# Altium footprint library Diode_Lumex_SSL-LX5093GD_eec_0.PcbLib: 1 footprints
Each footprint in its own frame and in the unit in brackets; x right, y up, seen from the top. Pads: shape width x height; smd on the part's side, far side on the other; paste and mask are expansions set on the pad; w line width, h text height; cw(c..) or ccw(c..) is an arc to the next point about the centre after c.
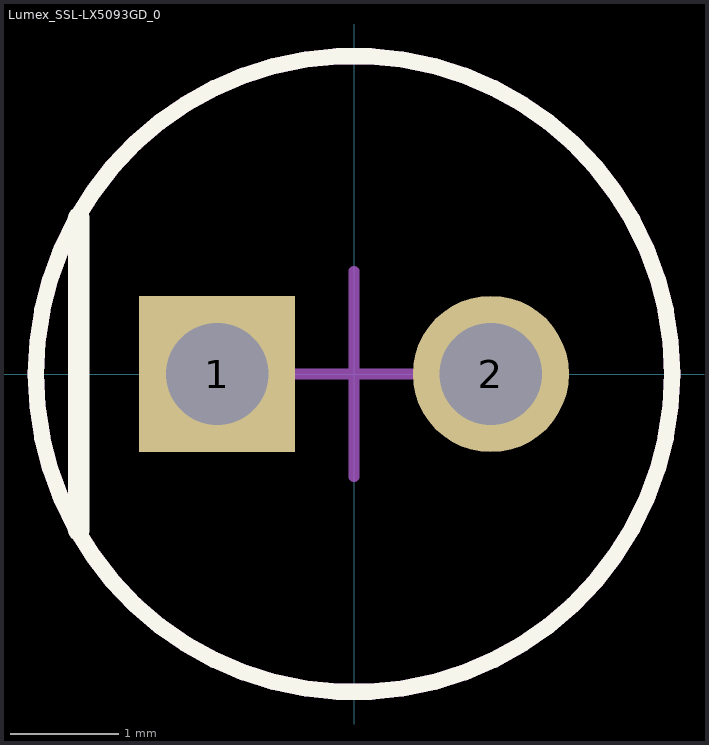
[diagram p0: the footprint, top view; thin cyan lines are the x and y axes]

## Lumex_SSL-LX5093GD_0 [mm]
pads (2):
  rect 1.45x1.45 hole 0.95 paste-1000 mask+0: 1(-1.27,0)
  round 1.45 hole 0.95 paste-1000 mask+0: 2(1.27,0)
Top Overlay:
  circle w0.15: c0,0 r2.95
  lines w0.2: -2.55,-1.45 -2.55,1.45
Mechanical 10:
  text ".Designator" at 0,0 h1
Mechanical 12:
  circle w0.15: c0,0 r2.95
Mechanical 15:
  lines w0.1: -0.953,0 0.953,0 ; 0,-0.953 0,0.953
3D body "3dmodel.step": height 0.25, standoff 0